# EAGLE library part 16-SEG-LED-A2308SR (library 180118 Library by matsu)
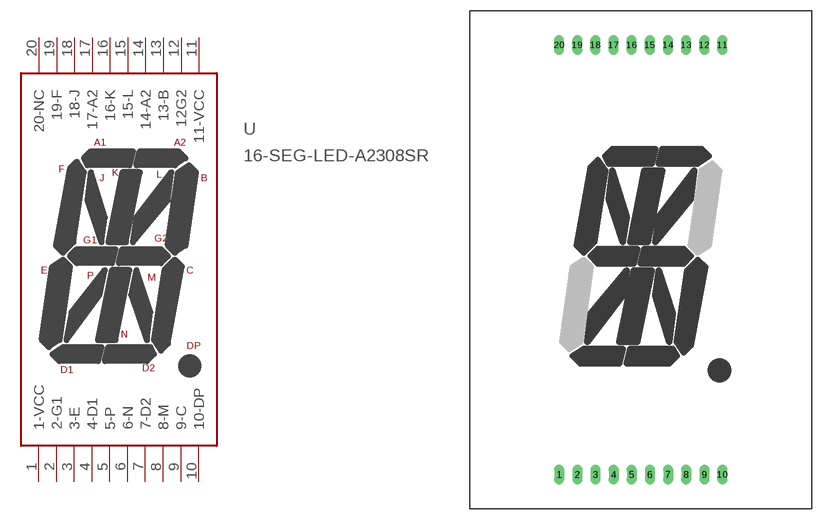
[diagram p36: symbol with the pads of 16-SEG-LED-A2308SR; footprint 16-SEG-LED-A2308SR]

Designator prefix -

## 16-SEG-LED-A2308SR  [16-SEG-LED-A2308SR]
1  1-VCC
2  2-G1
3  3-E
4  4-D1
5  5-P
6  6-N
7  7-D2
8  8-M
9  9-C
10  10-DP
11  11-VCC
12  12G2
13  13-B
14  14-A2
15  15-L
16  16-K
17  17-A2
18  18-J
19  19-F
20  20-NC

## Footprint 16-SEG-LED-A2308SR (pad centres in mm)
drill 0.7 pad 1.422 long: 1 12.52,4.8; 2 15.06,4.8; 3 17.6,4.8; 4 20.14,4.8; 5 22.68,4.8; 6 25.22,4.8; 7 27.76,4.8; 8 30.3,4.8; 9 32.84,4.8; 10 35.38,4.8; 11 35.38,65; 12 32.84,65; 13 30.3,65; 14 27.76,65; 15 25.22,65; 16 22.68,65; 17 20.14,65; 18 17.6,65; 19 15.06,65; 20 12.52,65